# EAGLE library part PINHEAD_1X06 (library pinhead)
pinheader 6P
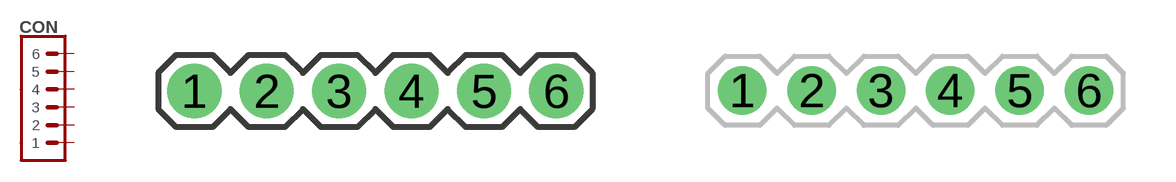
[diagram p9: symbol with the pads of 1X06-PTH-2.54; footprints 1X06-PTH-2.54, 1X06-PTH-2]

Designator prefix CON

## PINHEAD_1X06-2.54  [1X06-PTH-2.54]
1  1  pas
2  2  pas
3  3  pas
4  4  pas
5  5  pas
6  6  pas

## PINHEAD_1X06-2  [1X06-PTH-2]
Pads as for 1X06-PTH-2.54

## Footprint 1X06-PTH-2.54 (pad centres in mm)
drill 1 pad 1.9: 1 -6.35,0; 2 -3.81,0; 3 -1.27,0; 4 1.27,0; 5 3.81,0; 6 6.35,0

## Footprint 1X06-PTH-2 (pad centres in mm)
drill 0.8 pad 1.4: 1 -5,0; 2 -3,0; 3 -1,0; 4 1,0; 5 3,0; 6 5,0